# EAGLE library part PUSBMXX4-TL (library schematic)
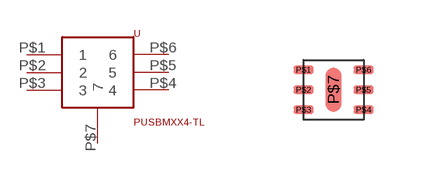
[diagram p13: symbol with the pads of PUSBMXX4-TL; footprint PUSBMXX4-TL]

Designator prefix -

## PUSBMXX4-TL  [PUSBMXX4-TL]
P$1  1
P$2  2
P$3  3
P$4  4
P$5  5
P$6  6
P$7  7

## Footprint PUSBMXX4-TL (pad centres in mm)
smd 0.5 x 0.2: P$1 -0.75,0.5; P$2 -0.75,0; P$3 -0.75,-0.5; P$4 0.75,-0.5; P$5 0.75,0; P$6 0.75,0.5
smd 0.4 x 1.1: P$7 0,0